# EAGLE library part PCA9635 (library linear)
The PCA9635 is an I2C-bus controlled 16-bit LED driver optimized for Red/Green/Blue/Amber (RGBA) color mixing applications.
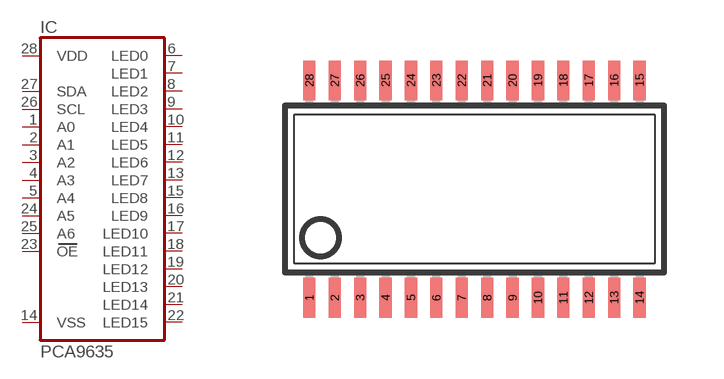
[diagram p203: symbol with the pads of TSSOP28; footprint TSSOP28]

Designator prefix IC

## PCA9635  [TSSOP28]
1  A0  in
2  A1  in
3  A2  in
4  A3  in
5  A4  in
6  LED0  out
7  LED1  out
8  LED2  out
9  LED3  out
10  LED4  out
11  LED5  out
12  LED6  out
13  LED7  out
14  VSS  pwr
15  LED8  out
16  LED9  out
17  LED10  out
18  LED11  out
19  LED12  out
20  LED13  out
21  LED14  out
22  LED15  out
23  OE  in
24  A5  in
25  A6  in
26  SCL
27  SDA
28  VDD  pwr

## Footprint TSSOP28 (pad centres in mm)
Thin Shrink Small Outline Plastic 28
smd 0.305 x 0.991: 1 -3.81,-2.718; 2 -3.175,-2.718; 3 -2.54,-2.718; 4 -1.905,-2.718; 5 -1.27,-2.718; 6 -0.635,-2.718; 7 0,-2.718; 8 0.635,-2.718; 9 1.27,-2.718; 10 1.905,-2.718; 11 2.54,-2.718; 12 3.175,-2.718; 13 3.81,-2.718; 14 4.445,-2.718; 15 4.445,2.718; 16 3.81,2.718; 17 3.175,2.718; 18 2.54,2.718; 19 1.905,2.718; 20 1.27,2.718; 21 0.635,2.718; 22 0,2.718; 23 -0.635,2.718; 24 -1.27,2.718; 25 -1.905,2.718; 26 -2.54,2.718; 27 -3.175,2.718; 28 -3.81,2.718